# Altium footprint library MSOP.PcbLib: 3 footprints
Each footprint in its own frame and in the unit in brackets; x right, y up, seen from the top. Pads: shape width x height; smd on the part's side, far side on the other; paste and mask are expansions set on the pad; w line width, h text height; cw(c..) or ccw(c..) is an arc to the next point about the centre after c.
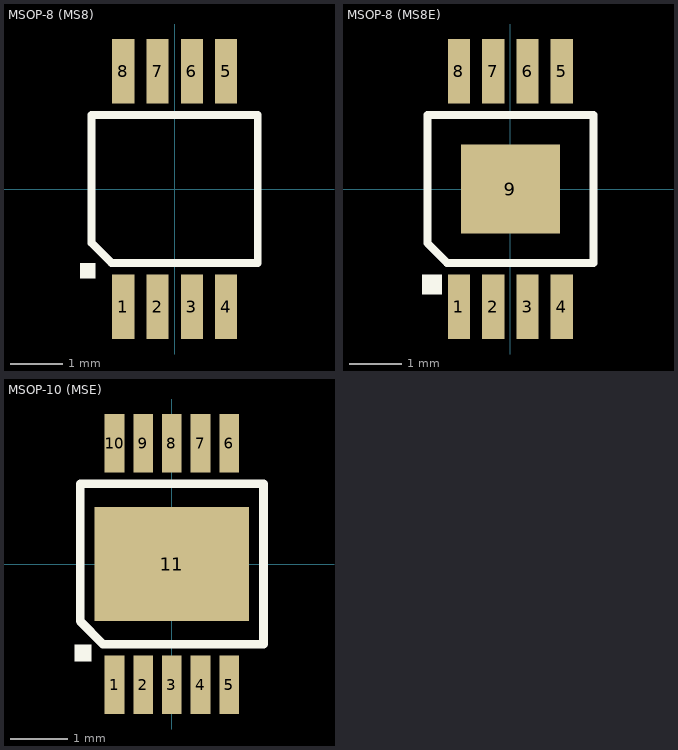
[diagram p0: the footprints below, top view; thin cyan lines are the x and y axes]

## MSOP-8 (MS8) [mil] "MS8 MSOP-8 Linear Technology 8-Lead PLASTIC MSOP"
height 43.31
pads (8):
  rect 16.5x48 smd paste-2.56 mask+0: 1(-38.39,-88) 2(-12.8,-88) 3(12.8,-88) 4(38.39,-88) 5(38.39,88) 6(12.8,88) 7(-12.8,88) 8(-38.39,88)
Top Overlay:
  rectangle: -70.87,-66.93 -59.06,-55.12
  lines w5.91: -62.01,-40.35 -62.01,55.12 62.01,55.12 62.01,-55.12 -47.24,-55.12 -62.01,-40.35
3D body: height 43.31, standoff 0, extent -61.02,-96.46 61.02,97.94

## MSOP-8 (MS8E) [mil] "MS8E MSOP-8 Linear Technology 8-Lead PLASTIC MSOP Exposed Ground (LT3010)"
height 43.31
pads (9):
  rect 16.5x48 smd paste-2.56 mask+0: 1(-38.39,-88) 2(-12.8,-88) 3(12.8,-88) 4(38.39,-88) 5(38.39,88) 6(12.8,88) 7(-12.8,88) 8(-38.39,88)
  rect 74.02x66.14 smd paste-9.84 mask+2: 9(0,0)
Top Overlay:
  rectangle: -65.94,-78.74 -51.18,-63.98
  lines w5.91: -62.01,-40.35 -47.24,-55.12 62.01,-55.12 62.01,55.12 -62.01,55.12 -62.01,-40.35
3D body: height 43.31, standoff 0, extent -61.02,-96.46 61.02,97.94

## MSOP-10 (MSE) [mil] "MSE MSOP-10 Linear Technology 10-Lead PLASTIC MSOP Exposed Ground (LT3757)"
height 43.31
pads (11):
  rect 13.5x40 smd mask+1: 1(-39.37,-83) 2(-19.68,-83) 3(0,-83) 4(19.68,-83) 5(39.37,-83) 6(39.37,83) 7(19.68,83) 8(0,83) 9(-19.68,83) 10(-39.37,83)
  rect 106x78 smd paste-3937.01 mask+1: 11(0,0)
Top Overlay:
  rectangle: -66.93,-66.93 -55.12,-55.12
  lines w6: -62.99,-39.37 -62.99,55.12 62.99,55.12 62.99,-55.12 -47.24,-55.12 -62.99,-39.37
Top Paste:
  rectangle: 7.87,-31.5 43.31,-3.94
  rectangle: 7.87,3.94 43.31,31.5
  rectangle: -43.31,-31.5 -7.87,-3.94
  rectangle: -43.31,3.94 -7.87,31.5